# Altium schematic symbol library Schlib1.SchLib: 46 symbols
Pins are listed as number, name and electrical type; pins without a type are passive.

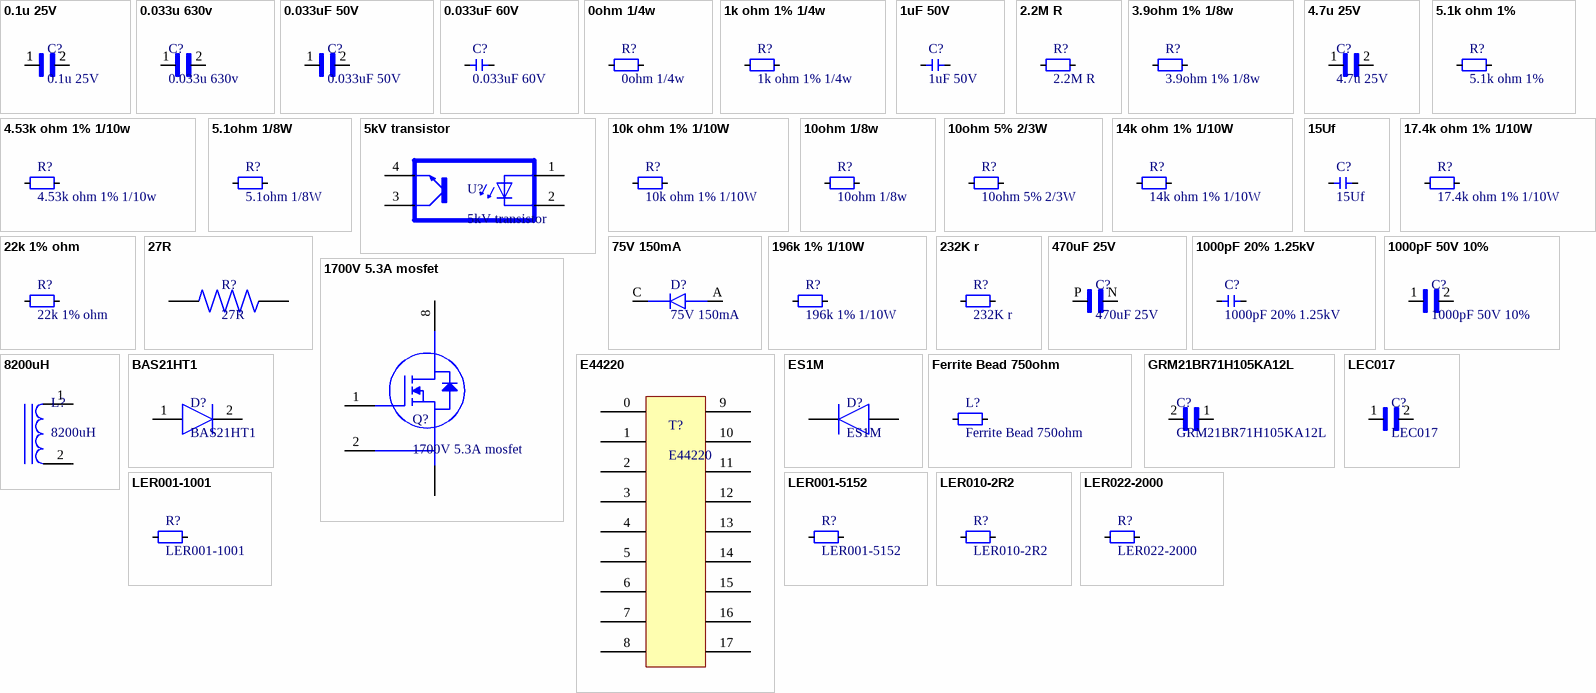
[diagram p0: symbols 0.1u 25V to LER022-2000]

## 0.1u 25V
designator C?
footprint CAPC2012X135N
pins: 1, 1, 2, 2

## 0.033u 630v
designator C?
footprint 0.33u 630V c
pins: 1, 2

## 0.033uF 50V
designator C?
footprint C-0603
pins: 1, 2

## 0.033uF 60V
designator C?
footprint C-0603
pins: 1, 2

## 0ohm 1/4w
designator R?
footprint R-0603
pins: 1, 2

## 1k ohm 1% 1/4w
designator R?
footprint R-0603
pins: 1, 2

## 1uF 50V
designator C?
footprint C-0805
pins: 1, 2

## 2.2M R
designator R?
footprint 232K
pins: 1, 2

## 3.9ohm 1% 1/8w
designator R?
footprint 5.1 ohm 1/8w
pins: 1, 2

## 4.7u 25V
designator C?
footprint 4.7u 25V
pins: 1, 2

## 4.53k ohm 1% 1/10w
designator R?
footprint R-0603
pins: 1, 2

## 5.1k ohm 1%
designator R?
footprint R-0603
pins: 1, 2

## 5.1ohm 1/8W
designator R?
footprint 5.1 ohm 1/8w
pins: 1, 2

## 5kV transistor
designator U?
footprint SOP-4
pins: 1 A, 2 C, 3 E, 4 CO

## 10k ohm 1% 1/10W
designator R?
footprint 10k ohm 1%
pins: 1, 2

## 10ohm 1/8w
designator R?
footprint 5.1 ohm 1/8w
pins: 1, 2

## 10ohm 5% 2/3W
designator R?
footprint 10 ohm %5
pins: 1, 2

## 14k ohm 1% 1/10W
designator R?
footprint R-0603
pins: 1, 2

## 15Uf
designator C?
footprint 15uf
pins: N, P

## 17.4k ohm 1% 1/10W
designator R?
footprint R-0603
pins: 1, 2

## 22k 1% ohm
designator R?
footprint R-0603
pins: 1, 2

## 27R
designator R?
footprint 75R2W
pins: 1, 2

## 75V 150mA
designator D?
footprint 75V 150mA
pins: A, C

## 196k 1% 1/10W
designator R?
footprint R-0603
pins: 1, 2

## 232K r
designator R?
footprint 232K
pins: 1, 2

## 470uF 25V
designator C?
footprint 470uF 25V
pins: N 1, P 2

## 1000pF 20% 1.25kV
designator C?
footprint CAP Fılm 1000pF 20% 450V
pins: 1, 2

## 1000pF 50V 10%
designator C?
footprint C-0805
pins: 1, 2

## 1700V 5.3A mosfet
designator Q?
footprint 1400V 5.3A Mosfet
pins: 1 GATE, 2 DRIVER_SOURCE, 3 POWER_SOURCE, 4 POWER_SOURCE, 5 POWER_SOURCE, 6 POWER_SOURCE, 7 POWER_SOURCE, 8 DRAIN

## 8200uH
designator L?
footprint 8200uH
pins: 1, 2

## BAS21HT1
designator D?
footprint BAS21HT1
pins: 1 A, 2 K

## E44220
designator T?
footprint E44220
pins: 0, 1, 2, 3, 4, 5, 6 7, 7, 8, 9, 10, 11, 12, 13, 14, 15, 16, 17

## ES1M
designator D?
footprint ES1M
pins: A, C

## Ferrite Bead 750ohm
designator L?
footprint Ferrite Bead 750ohm
pins: 1, 2

## GRM21BR71H105KA12L
designator C?
SMD Capacitor X7R(EIA) with Capacitance: 1.0uF Tol. 10%. Rated Voltage: 50Vdc; MF: Murata; SnapEDA_Link: https://www.snapeda.com/parts/GRM21BR71H105KA12L/Murata%20Electronics%20North%20America/view-part/78633/?ref=snap; Availability: Warning; MP: GRM21BR71H105KA12L; Value: *; Price: None; Package: 0805 Murata; Check_prices: https://www.snapeda.com/parts/GRM21BR71H105KA12L/Murata%20Electronics%20North%20America/view-part/78633/?ref=eda
footprint CAPC2012X135N
pins: 1, 2

## LEC017
designator C?
footprint LEC017
pins: 1, 2

## LER001-1001
designator R?
footprint LER001-1001
pins: 1, 2

## LER001-5152
designator R?
footprint LER001-5152
pins: 1, 2

## LER010-2R2
designator R?
footprint LER010-2R2
pins: 1, 2

## LER022-2000
designator R?
footprint LER022
pins: 1, 2

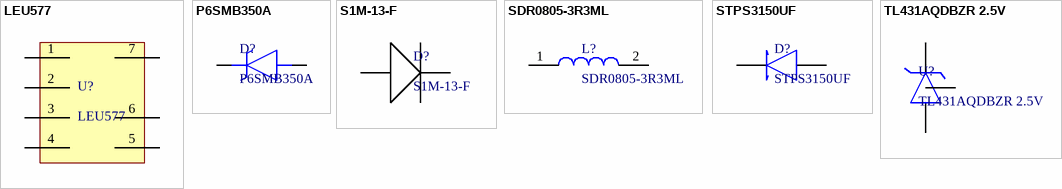
[diagram p1: symbols LEU577 to TL431AQDBZR 2.5V]

## LEU577
designator U?
footprint LEU577
pins: 1, 2, 3, 4, 5, 6, 7

## P6SMB350A
designator D?
footprint P6SMB350A
pins: A, C K

## S1M-13-F
designator D?
footprint S1M-13F
pins: A, C

## SDR0805-3R3ML
designator L?
footprint 8200uH
pins: 1, 2

## STPS3150UF
designator D?
footprint STPS3150UF
pins: A, C K

## TL431AQDBZR 2.5V
designator U?
footprint SOT95P237X112-3N
pins: 1, 2, 3